# EAGLE library part 760871131 (library WE-OLSTM)
WE-OLSTM Offline Flyback Transformers Characteristics Nominal input voltage: 85–265 VAC (120–375 VDC) Operating temperature: –40 °C to +125 °C Isolation voltage: 2 kVAC up to 5 kVAC Multiple output options Options for fixed frequency or quasi-resonant mode operation Most products meet reinforced insulation Applications Offline-switch mode power supplies Especially designed for several ICs from STMicroelectronics Auxiliary power supply Home appliances Consumer electronics <https://www.we-online.com/components/media/o781306v209%20FAMILY-MID-OLSTM.jpg> Details see: www.we-online.com/en/components/products/WE-OLSTM <www.we-online.com/en/components/products/WE-OLSTM/?utm_source=eagle_model&utm_medium=description_link&utm_campaign=eisos_eagle> Created by Leviosa 2024-04-15 2024(C) Wurth Elektronik
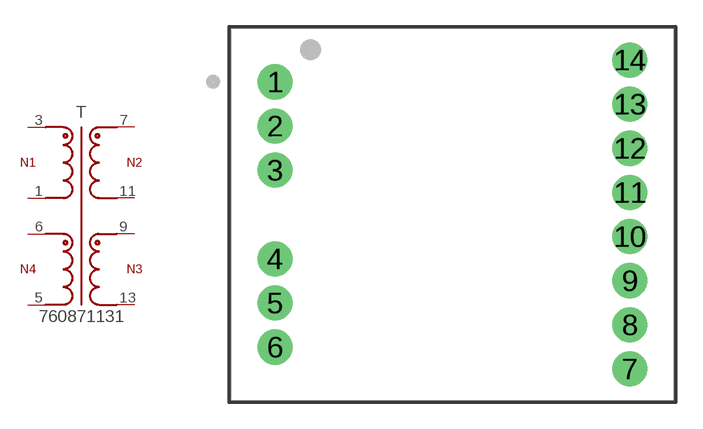
[diagram p8: symbol with the pads of WE-OLSTM_EE20_L21W25H16; footprint WE-OLSTM_EE20_L21W25H16]

Designator prefix T

## 760871131 (DATASHEET-URL: https://www.we-online.com/redexpert/spec/760871131?ae; FSWITCH: 60kHz; IOUT1: 500mA; IOUT2: 500mA; ISAT: 700mA; L: 1.396mH; MOUNT: THT; N: 9.6:1:1:1.2; PART-NUMBER: 760871131; SIZE: EE20/10/6; VALUE: 760871131; VAUX: 15V; VIN: 85 - 265 V (AC); VOUT1: 12V; VOUT2: 12V; VT: 4000V(AC))  [WE-OLSTM_EE20_L21W25H16]
1  1  pas
3  3  pas
5  5  pas
6  6  pas
7  7  pas
9  9  pas
11  11  pas
13  13  pas

## Footprint WE-OLSTM_EE20_L21W25H16 (pad centres in mm)
WE-OLSTM Offline Flyback Transformers for STMicroelectronics Size: EE20, THT, 14Pins LXWXH=21X25X16mm
drill 1.32: 1 -10,7.48; 2 -10,4.99; 3 -10,2.5; 4 -10,-2.5; 5 -10,-4.99; 6 -10,-7.48; 7 10,-8.715; 8 10,-6.225; 9 10,-3.735; 10 10,-1.245; 11 10,1.245; 12 10,3.735; 13 10,6.225; 14 10,8.715